# Altium footprint library circuit19.PcbLib: 9 footprints
Each footprint in its own frame and in the unit in brackets; x right, y up, seen from the top. Pads: shape width x height; smd on the part's side, far side on the other; paste and mask are expansions set on the pad; w line width, h text height; cw(c..) or ccw(c..) is an arc to the next point about the centre after c.
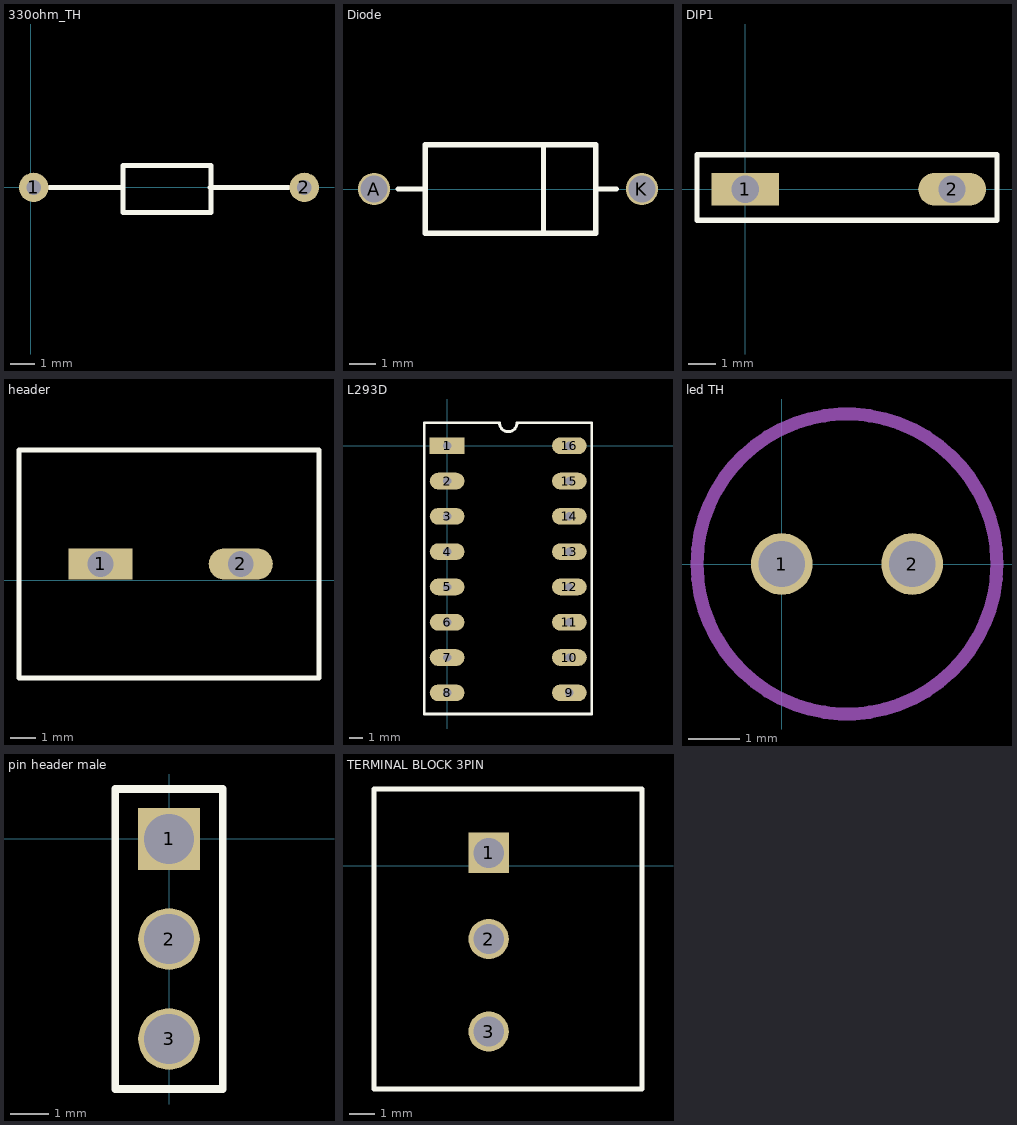
[diagram p0: the footprints below, top view; thin cyan lines are the x and y axes]

## 330ohm_TH [mm]
pads (2):
  round 1.2 hole 0.6: 1(0.127,0) 2(11.176,0)
Top Overlay:
  lines w0.2: 0.762,0 3.775,0 ; 7.331,0 10.541,0 ; 3.775,0 3.775,0.889 7.366,0.889 7.366,-1.016 3.775,-1.016 3.775,0
3D body "RES_LR1_TYCO_TYC.step": height 2.49, standoff -2.54, extent -0.244,-1.236 11.493,1.236

## Diode [mm]
pads (2):
  round 1.2 hole 1: A(10.033,0) K(20,0)
Top Overlay:
  lines w0.2: 10.922,0 11.815,0 ; 16.338,-1.651 16.338,1.651 ; 18.288,0 19.05,0 ; 11.938,-1.651 11.938,1.651 18.288,1.651 18.288,-1.651 11.938,-1.651
3D body "1N5817-T[1].step": height 2.68, standoff -21.77, extent 9.512,-1.346 20.46,1.346

## DIP1 [mm]
pads (2):
  rect 2.5x1.2 hole 1: 1(0,0)
  oval 2.5x1.2 hole 1: 2(7.62,0)
Top Overlay:
  lines w0.2: -1.778,-1.143 9.271,-1.143 9.271,1.27 -1.778,1.27 -1.778,-1.143
3D body "CUI_DEVICES_DS01-254-L-01BE.step": height 6.56, standoff -3.79, extent -1.14,-1.928 8.76,2.032

## header [mm]
pads (2):
  rect 2.5x1.2 hole 1: 1(4.953,0.635)
  oval 2.5x1.2 hole 1: 2(10.414,0.635)
Top Overlay:
  lines w0.2: 1.778,-3.81 13.462,-3.81 13.462,5.08 3.79,5.08 1.778,5.08 1.778,-3.81
3D body "282837-2.step": height 10, standoff -3.5, extent 2.194,-3.465 12.954,4.735

## L293D [mm]
pads (16):
  rect 2.5x1.2 hole 0.6: 1(0,0)
  oval 2.5x1.2 hole 0.6: 2(0,-2.54) 3(0,-5.08) 4(0,-7.62) 5(0,-10.16) 6(0,-12.7) 7(0,-15.24) 8(0,-17.78) 9(8.8,-17.78) 10(8.8,-15.24) 11(8.8,-12.7) 12(8.8,-10.16) 13(8.8,-7.62) 14(8.8,-5.08) 15(8.8,-2.54) 16(8.8,0)
Top Overlay:
  lines w0.2: -1.651,-19.304 10.414,-19.304 10.414,1.651 5.035,1.651 cw(c4.4,1.651) 3.765,1.651 -1.651,1.651 -1.651,-19.304
3D body "L293D[1].step": height 5.1, standoff -3.3, extent -0.302,-18.857 8.938,1.143

## led TH [mm]
pads (2):
  round 1.2 hole 0.9: 1(0,0) 2(2.54,0)
Mechanical 1:
  circle w0.254: c1.27,0 r2.921
3D body "XLxx12.step": height 8.62, standoff -26.99, extent -1.624,-2.921 3.81,2.991

## PCBComponent_1 [mm]

## pin header male [mm]
pads (3):
  rect 1.6x1.6 hole 1.3: 1(0,0)
  round 1.6 hole 1.3: 2(0,-2.6) 3(0,-5.2)
Top Overlay:
  lines w0.2: -1.397,-6.5 1.397,-6.5 1.397,1.3 -1.397,1.3 -1.397,-6.5
3D body "61300311121_Download_STP_61300311121_rev1.stp": height 7.27, standoff -4.27, extent -1.27,-6.41 1.27,1.21

## TERMINAL BLOCK 3PIN [mm]
pads (3):
  rect 1.6x1.6 hole 1.2: 1(7.874,0.508)
  round 1.6 hole 1.2: 2(7.874,-2.921) 3(7.874,-6.604)
Top Overlay:
  lines w0.2: 3.302,-8.89 3.302,-2.323 3.302,1.414 3.302,3.048 13.984,3.048 13.984,-8.89 3.302,-8.89
3D body "1751109[1].step": height 9.53, standoff -3.5, extent 3.494,-8.509 13.524,2.521